# EAGLE library part 50208-012 (library con-aces-50208-series)
ACES CONNECTORS 50208 SERIES ACES Connecors 50208 <https://www.acesconn.com/tw/series/50208-xxxxx-xxx/1224>
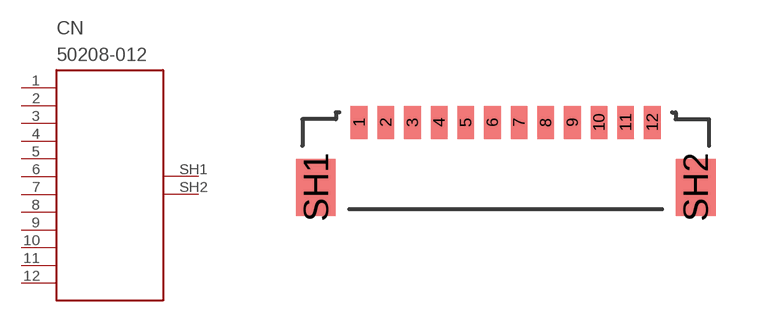
[diagram p8: symbol with the pads of 50208-012; footprint 50208-012]

Designator prefix CN

## 50208-012  [50208-012]
1  1
2  2
3  3
4  4
5  5
6  6
7  7
8  8
9  9
10  10
11  11
12  12
SH1  SH1
SH2  SH2

## Footprint 50208-012 (pad centres in mm)
smd 0.5 x 1: 1 -4.4,0; 2 -3.6,0; 3 -2.8,0; 4 -2,0; 5 -1.2,0; 6 -0.4,0; 7 0.4,0; 8 1.2,0; 9 2,0; 10 2.8,0; 11 3.6,0; 12 4.4,0
smd 1.2 x 1.7: SH1 -5.7,-1.95; SH2 5.7,-1.95